# EAGLE library part PCM5102A_MODULE (library mainboard-v4aW-jlcpcb)
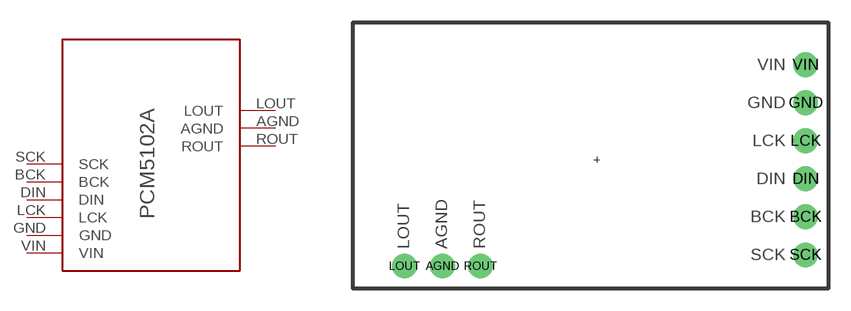
[diagram p7: symbol with the pads of PCM5102A_MODULE; footprint PCM5102A_MODULE]

Designator prefix -

## PCM5102A_MODULE  [PCM5102A_MODULE]
AGND  AGND
BCK  BCK
DIN  DIN
GND  GND
LCK  LCK
LOUT  LOUT
ROUT  ROUT
SCK  SCK
VIN  VIN

## Footprint PCM5102A_MODULE (pad centres in mm)
drill 0.8 pad 1.64: AGND -10.312,-7.102; BCK 13.97,-3.81; DIN 13.97,-1.27; GND 13.97,3.81; LCK 13.97,1.27; LOUT -12.852,-7.102; ROUT -7.772,-7.102; SCK 13.97,-6.35; VIN 13.97,6.35